# Altium footprint library TSSOP-16.PcbLib: 1 footprints
Each footprint in its own frame and in the unit in brackets; x right, y up, seen from the top. Pads: shape width x height; smd on the part's side, far side on the other; paste and mask are expansions set on the pad; w line width, h text height; cw(c..) or ccw(c..) is an arc to the next point about the centre after c.
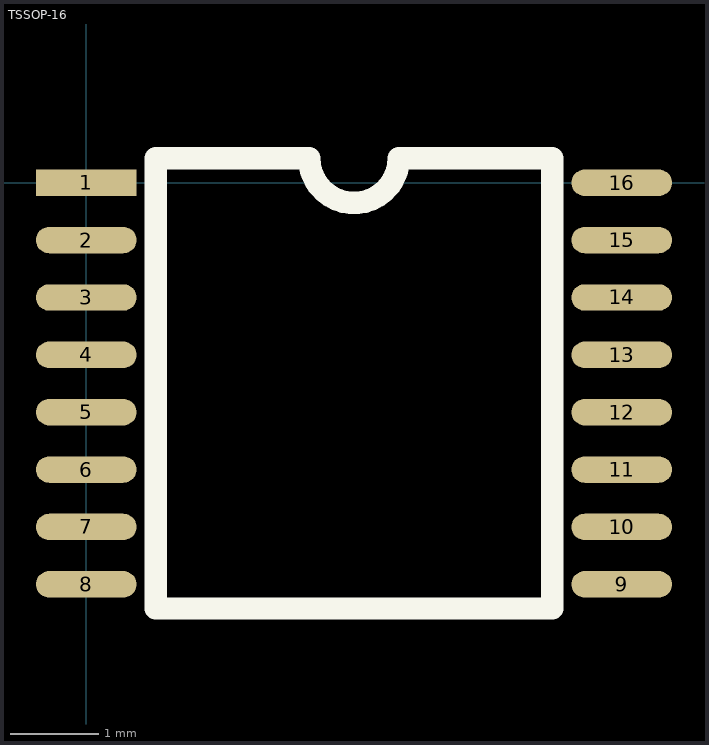
[diagram p0: the footprint, top view; thin cyan lines are the x and y axes]

## TSSOP-16 [mil]
height 65
pads (16):
  rect 45x11.8 smd: 1(0,0)
  oval 45x11.8 smd: 2(0,-25.6) 3(0,-51.2) 4(0,-76.8) 5(0,-102.4) 6(0,-128) 7(0,-153.6) 8(0,-179.2) 9(239,-179.2) 10(239,-153.6) 11(239,-128) 12(239,-102.4) 13(239,-76.8) 14(239,-51.2) 15(239,-25.6) 16(239,0)
TopOverlay:
  lines w10: 31,-190 31,11 99.5,11 ccw(c119.5,11) 139.5,11 208,11 208,-190 31,-190
Mechanical4:
  text ".040" at -6,0 h1
3D body: height 41.69, standoff -1.62, extent -7.4,-190.07 244.57,10.72